# Altium footprint library Robsense_lxxu.PcbLib: 67 footprints (part 1 of 5)
Each footprint in its own frame and in the unit in brackets; x right, y up, seen from the top. Pads: shape width x height; smd on the part's side, far side on the other; paste and mask are expansions set on the pad; w line width, h text height; cw(c..) or ccw(c..) is an arc to the next point about the centre after c.
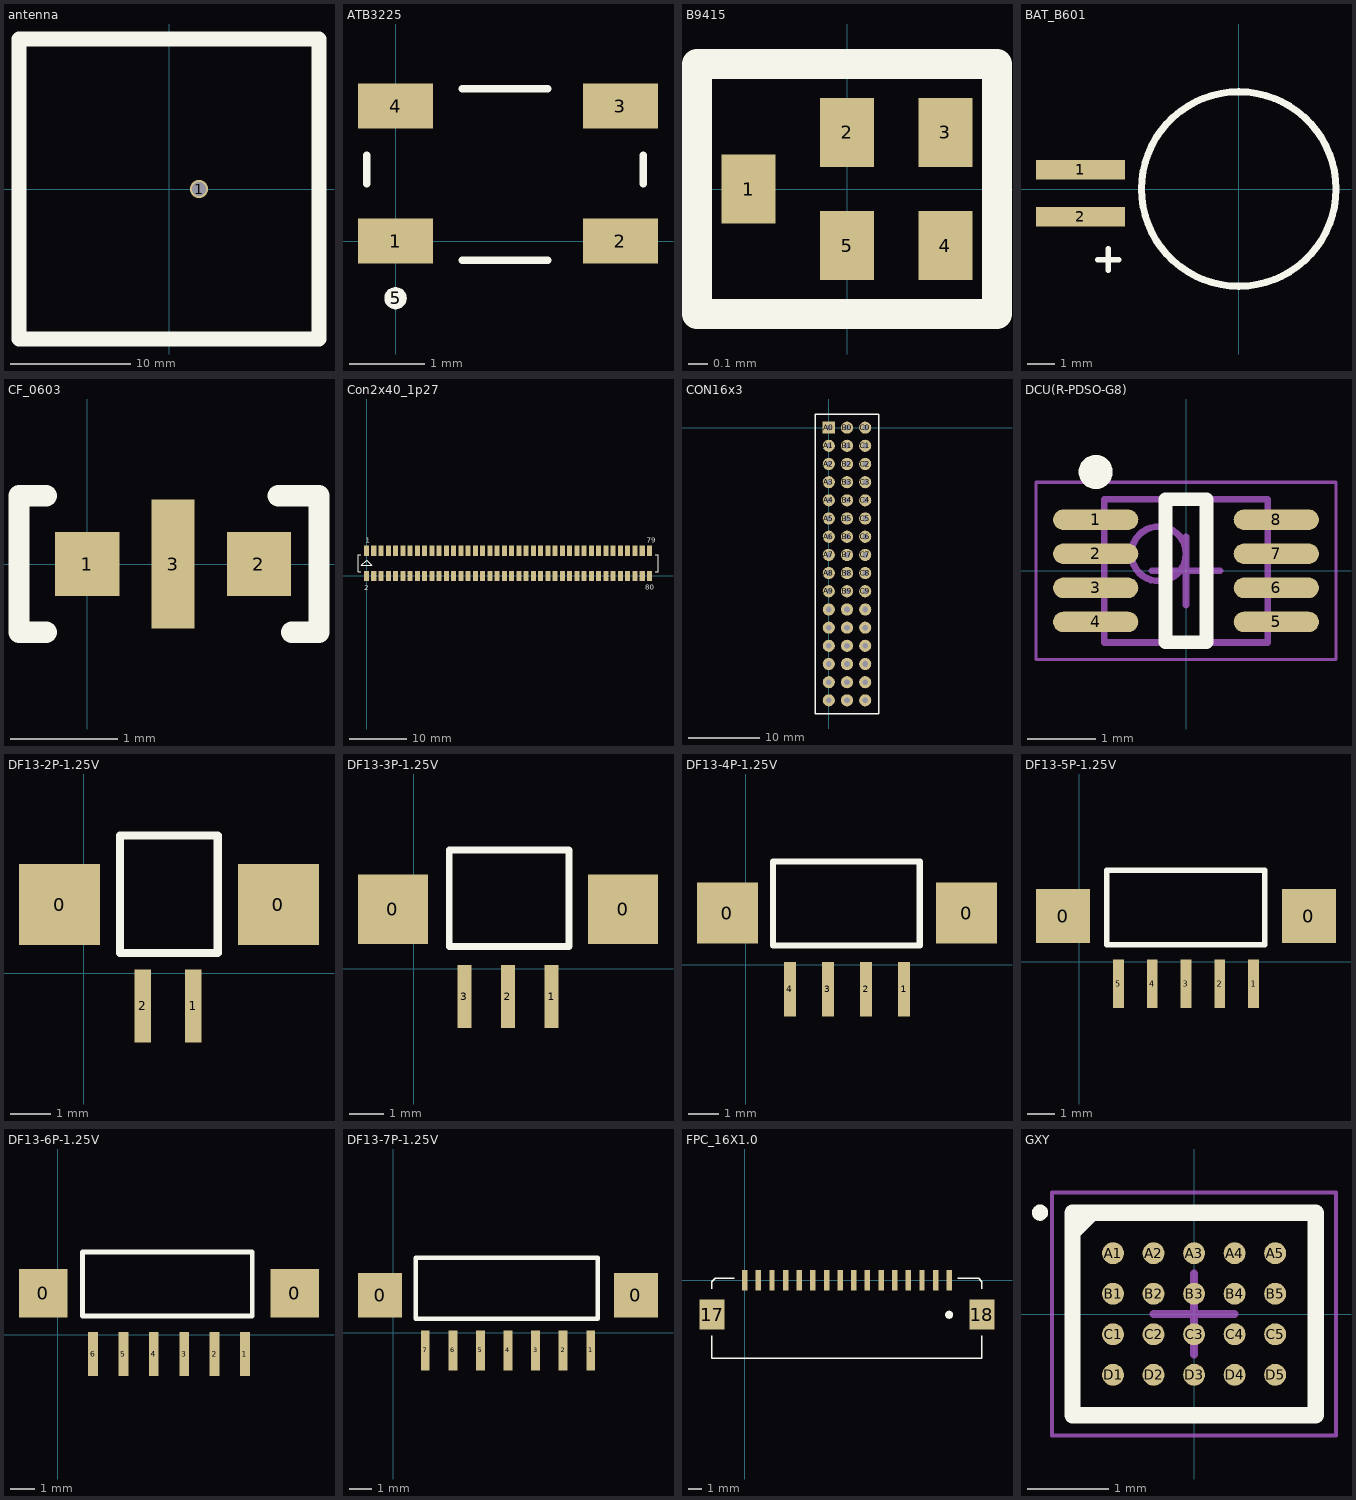
[diagram p0: the footprints below, top view; thin cyan lines are the x and y axes]

## antenna [mm]
pads (1):
  round 1.524 hole 1.2: 1(2.5,0)
Top Overlay:
  lines w1.25: -12.5,-12.5 -12.5,12.5 12.5,12.5 12.5,-12.5 -12.5,-12.5

## ATB3225 [mm]
pads (5):
  rect 1x0.6 smd: 1(0,0) 2(3,0) 3(3,1.8) 4(0,1.8)
  round 0.3 on Top Overlay: 5(0,-0.762)
Top Overlay:
  lines w0.1: -0.381,0.762 -0.381,1.143 ; 0.889,-0.254 2.032,-0.254 ; 0.889,2.032 2.032,2.032 ; 3.302,0.762 3.302,1.143
3D body: height 1.5, standoff 0.2, extent -0.381,-0.254 3.302,2.032

## B9415 [mm]
pads (5):
  rect 0.275x0.35 smd: 1(-0.5,0) 2(0,0.288) 3(0.5,0.288) 4(0.5,-0.288) 5(0,-0.288)
Top Overlay:
  lines w0.15: -0.762,-0.635 0.762,-0.635 0.762,0.635 -0.762,0.635 -0.762,-0.635

## BAT_B601 [mm]
pads (2):
  rect 3.2x0.7 smd: 1(-5.7,0.7) 2(-5.7,-1)
Top Overlay:
  circle w0.254: c0,0 r3.5
  lines w0.2: -5.08,-2.54 -4.318,-2.54 ; -4.699,-2.921 -4.699,-2.159

## CF_0603 [mm]
pads (3):
  rect 0.6x0.6 smd: 1(0,0) 2(1.6,0)
  rect 0.4x1.2 smd: 3(0.8,0)
Top Overlay:
  lines w0.2: -0.381,-0.635 -0.635,-0.635 -0.635,0.635 -0.381,0.635 ; 1.778,0.635 2.159,0.635 2.159,-0.635 1.905,-0.635

## Con2x40_1p27 [mm]
pads (80):
  rect 0.9x1.8 smd: 1(0,4.4) 2(0,0) 3(1.27,4.4) 4(1.27,0) 5(2.54,4.4) 6(2.54,0) 7(3.81,4.4) 8(3.81,0) 9(5.08,4.4) 10(5.08,0) 11(6.35,4.4) 12(6.35,0) 13(7.62,4.4) 14(7.62,0) 15(8.89,4.4) 16(8.89,0) 17(10.16,4.4) 18(10.16,0) 19(11.43,4.4) 20(11.43,0) 21(12.7,4.4) 22(12.7,0) 23(13.97,4.4) 24(13.97,0) 25(15.24,4.4) 26(15.24,0) 27(16.51,4.4) 28(16.51,0) 29(17.79,4.4) 30(17.78,0) 31(19.05,4.4) 32(19.05,0) 33(20.32,4.4) 34(20.32,0) 35(21.59,4.4) 36(21.59,0) 37(22.86,4.4) 38(22.86,0) 39(24.13,4.4) 40(24.13,0) 41(25.4,4.4) 42(25.4,0) 43(26.67,4.4) 44(26.67,0) 45(27.94,4.4) 46(27.94,0) 47(29.21,4.4) 48(29.21,0) 49(30.48,4.4) 50(30.47,0) 51(31.75,4.4) 52(31.75,0) 53(33.02,4.4) 54(33.02,0) 55(34.29,4.4) 56(34.29,0) 57(35.56,4.4) 58(35.56,0) 59(36.83,4.4) 60(36.83,0) 61(38.1,4.4) 62(38.1,0) 63(39.37,4.4) 64(39.37,0) 65(40.64,4.4) 66(40.64,0) 67(41.91,4.4) 68(41.91,0) 69(43.18,4.4) 70(43.18,0) 71(44.45,4.4) 72(44.45,0) 73(45.72,4.4) 74(45.72,0) 75(46.99,4.4) 76(46.99,0) 77(48.26,4.4) 78(48.26,0) 79(49.53,4.4) 80(49.53,0)
Top Overlay:
  lines w0.15: -1,0.7 -1.5,0.7 -1.5,3.7 -1,3.7 ; 50.53,0.7 51.03,0.7 51.03,3.7 50.53,3.7 ; -0.889,1.905 0.635,1.905 0.889,1.905 0,2.794 -0.889,1.905
  text "79" at 49.022,5.842 h0.89
  text "80" at 48.768,-2.413 h0.89
  text "2" at -0.381,-2.54 h0.89
  text "1" at -0.127,5.842 h0.89

## CON16x3 [mm]
pads (48):
  rect 1.7x1.7 hole 0.8: A0(0,0)
  round 1.7 hole 0.8: A1(0,-2.54) A2(0,-5.08) A3(0,-7.62) A4(0,-10.16) A5(0,-12.7) A6(0,-15.24) A7(0,-17.78) A8(0,-20.32) A9(0,-22.86) A10(0,-25.4) A11(0,-27.94) A12(0,-30.48) A13(0,-33.02) A14(0,-35.56) A15(0,-38.1) B0(2.54,0) B1(2.54,-2.54) B2(2.54,-5.08) B3(2.54,-7.62) B4(2.54,-10.16) B5(2.54,-12.7) B6(2.54,-15.24) B7(2.54,-17.78) B8(2.54,-20.32) B9(2.54,-22.86) B10(2.54,-25.4) B11(2.54,-27.94) B12(2.54,-30.48) B13(2.54,-33.02) B14(2.54,-35.56) B15(2.54,-38.1) C0(5.08,0) C1(5.08,-2.54) C2(5.08,-5.08) C3(5.08,-7.62) C4(5.08,-10.16) C5(5.08,-12.7) C6(5.08,-15.24) C7(5.08,-17.78) C8(5.08,-20.32) C9(5.08,-22.86) C10(5.08,-25.4) C11(5.08,-27.94) C12(5.08,-30.48) C13(5.08,-33.02) C14(5.08,-35.56) C15(5.08,-38.1)
Top Overlay:
  lines w0.2: -1.905,-40.005 6.985,-40.005 6.985,1.905 -1.905,1.905 -1.905,-40.005

## DCU(R-PDSO-G8) [mm] "TSSOP, 8-Leads, Body 2.00x2.30mm, Pitch 0.50mm, IPC Medium Density"
height 0.9
pads (8):
  oval 1.25x0.3 smd: 1(-1.325,0.75) 2(-1.325,0.25) 3(-1.325,-0.25) 4(-1.325,-0.75) 5(1.325,-0.75) 6(1.325,-0.25) 7(1.325,0.25) 8(1.325,0.75)
Top Overlay:
  circle w0.25: c-1.325,1.45 r0.125
  lines w0.2: -0.3,-1.05 0.3,-1.05 0.3,1.05 -0.3,1.05 -0.3,-1.05
Mechanical 13:
  circle w0.1: c-0.4,0.25 r0.4
  lines w0.1: -1.2,-1.05 1.2,-1.05 1.2,1.05 -1.2,1.05 -1.2,-1.05
Mechanical 15:
  lines w0.05: -2.2,-1.3 2.2,-1.3 2.2,1.3 -2.2,1.3 -2.2,-1.3
  lines w0.1: -0.5,0 0.5,0 ; 0,-0.5 0,0.5
3D body: height 0.9, standoff 0.1, extent -1.2,-1.05 1.2,1.05

## DF13-2P-1.25V [mm]
pads (4):
  rect 2x2 smd: 0(-0.6,1.7) 0(4.8,1.7)
  rect 0.4x1.8 smd: 1(2.7,-0.8) 2(1.45,-0.8)
Top Overlay:
  lines w0.2: 0.889,0.508 0.889,3.4 3.302,3.4 3.302,0.508 0.889,0.508

## DF13-3P-1.25V [mm]
pads (5):
  rect 2x2 smd: 0(-0.6,1.7) 0(6,1.7)
  rect 0.4x1.8 smd: 1(3.95,-0.8) 2(2.7,-0.8) 3(1.45,-0.8)
Top Overlay:
  lines w0.2: 1.016,0.635 4.445,0.635 4.445,3.4 1.016,3.4 1.016,0.635

## DF13-4P-1.25V [mm]
pads (6):
  rect 2x2 smd: 0(-0.6,1.7) 0(7.25,1.7)
  rect 0.4x1.8 smd: 1(5.2,-0.8) 2(3.95,-0.8) 3(2.7,-0.8) 4(1.45,-0.8)
Top Overlay:
  lines w0.2: 0.889,0.635 0.889,3.4 5.715,3.4 5.715,0.635 0.889,0.635

## DF13-5P-1.25V [mm]
pads (7):
  rect 2x2 smd: 0(-0.6,1.7) 0(8.5,1.7)
  rect 0.4x1.8 smd: 1(6.45,-0.8) 2(5.2,-0.8) 3(3.95,-0.8) 4(2.7,-0.8) 5(1.45,-0.8)
Top Overlay:
  lines w0.2: 1.016,0.635 6.858,0.635 6.858,3.4 1.016,3.4 1.016,0.635

## DF13-6P-1.25V [mm]
pads (8):
  rect 2x2 smd: 0(-0.6,1.7) 0(9.75,1.7)
  rect 0.4x1.8 smd: 1(7.7,-0.8) 2(6.45,-0.8) 3(5.2,-0.8) 4(3.95,-0.8) 5(2.7,-0.8) 6(1.45,-0.8)
Top Overlay:
  lines w0.2: 1.016,0.762 1.016,3.4 8.001,3.4 8.001,0.762 1.016,0.762

## DF13-7P-1.25V [mm]
pads (9):
  rect 2x2 smd: 0(-0.6,1.7) 0(11,1.7)
  rect 0.4x1.8 smd: 1(8.95,-0.8) 2(7.7,-0.8) 3(6.45,-0.8) 4(5.2,-0.8) 5(3.95,-0.8) 6(2.7,-0.8) 7(1.45,-0.8)
Top Overlay:
  lines w0.2: 1.016,0.635 9.271,0.635 9.271,3.4 1.016,3.4 1.016,0.635

## FPC_16X1.0 [mm]
pads (19):
  rect 0.4x1.5 smd: 1(15,0) 2(14,0) 3(13,0) 4(12,0) 5(11,0) 6(10,0) 7(9,0) 8(8,0) 9(7,0) 10(6,0) 11(5,0) 12(4,0) 13(3,0) 14(2,0) 15(1,0) 16(0,0)
  rect 1.8x2.2 smd: 17(-2.4,-2.525) 18(17.4,-2.525)
  round 0.6 on Top Overlay: 19(14.986,-2.54)
Top Overlay:
  lines w0.1: -2.413,-4.064 -2.413,-5.715 17.399,-5.715 17.399,-4.064 ; -2.413,-0.635 -2.413,-0.127 -2.159,0.127 -0.762,0.127 ; 15.621,0.127 17.145,0.127 17.399,-0.127 17.399,-0.635

## GXY [mm]
height 0.61
pads (20):
  round 0.27 smd: A1(-1,0.75) A2(-0.5,0.75) A3(0,0.75) A4(0.5,0.75) A5(1,0.75) B1(-1,0.25) B2(-0.5,0.25) B3(0,0.25) B4(0.5,0.25) B5(1,0.25) C1(-1,-0.25) C2(-0.5,-0.25) C3(0,-0.25) C4(0.5,-0.25) C5(1,-0.25) D1(-1,-0.75) D2(-0.5,-0.75) D3(0,-0.75) D4(0.5,-0.75) D5(1,-0.75)
Top Overlay:
  circle w0.1: c-1.9,1.25 r0.05
  region: -1.257,1.25 -1.5,1.007 -1.5,1.25
  lines w0.2: -1.5,1.007 -1.257,1.25 ; -1.5,-1.25 -1.5,1.25 1.5,1.25 1.5,-1.25 -1.5,-1.25
Mechanical 13:
  lines w0.1: -1.5,-1.25 -1.5,1.25 1.5,1.25 1.5,-1.25 -1.5,-1.25
Mechanical 15:
  lines w0.05: -1.75,-1.5 -1.75,1.5 1.75,1.5 1.75,-1.5 -1.75,-1.5
  lines w0.1: -0.5,0 0.5,0 ; 0,-0.5 0,0.5
3D body: height 0.61, standoff 0.2, extent -1.5,-1.25 1.5,1.25